# EAGLE library part MOUDLE-SEEEDUINO-XIAO-ESP32C3 (library Seeed-Studio-XIAO-ESP32C3-footprint-eagle)
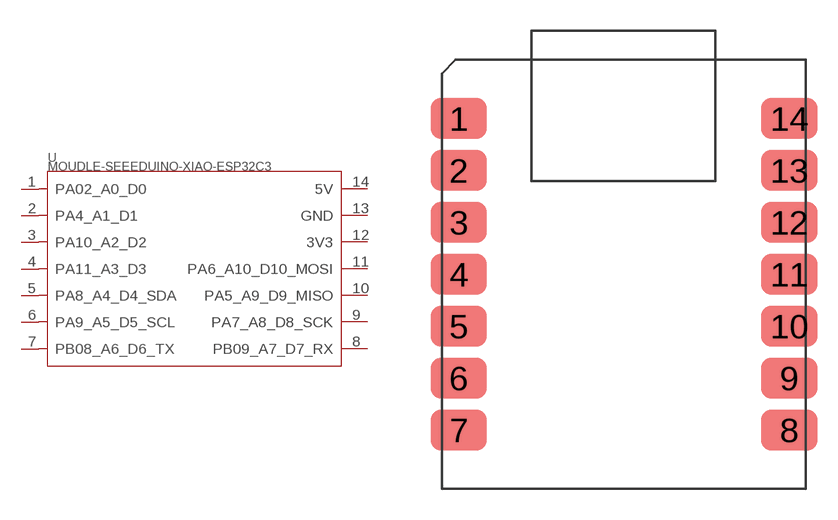
[diagram p0: symbol with the pads of MOUDLE14P-SMD-2.54-21X17.8MM; footprint MOUDLE14P-SMD-2.54-21X17.8MM]

Designator prefix U

## MOUDLE-SEEEDUINO-XIAO-ESP32C3-SMD  [MOUDLE14P-SMD-2.54-21X17.8MM]
1  PA02_A0_D0
2  PA4_A1_D1
3  PA10_A2_D2
4  PA11_A3_D3
5  PA8_A4_D4_SDA
6  PA9_A5_D5_SCL
7  PB08_A6_D6_TX
8  PB09_A7_D7_RX
9  PA7_A8_D8_SCK
10  PA5_A9_D9_MISO
11  PA6_A10_D10_MOSI
12  3V3
13  GND
14  5V

## Footprint MOUDLE14P-SMD-2.54-21X17.8MM (pad centres in mm)
smd 2.75 x 2: 1 0.835,18.12; 2 0.835,15.58; 3 0.835,13.04; 4 0.835,10.5; 5 0.835,7.96; 6 0.835,5.42; 7 0.835,2.88; 8 17,2.88; 9 17,5.42; 10 17,7.96; 11 17,10.5; 12 17,13.04; 13 17,15.58; 14 17,18.12